# Altium integrated library Altium_Krebyy_Library.IntLib: 67 symbols (part 2 of 3)
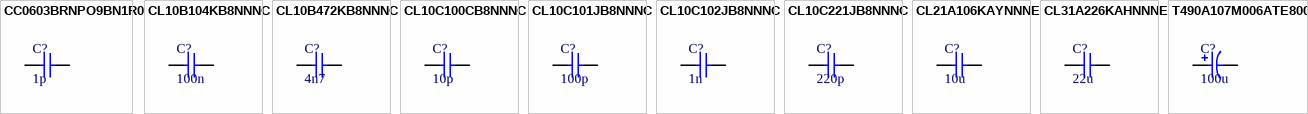
[diagram p11: symbols CC0603BRNPO9BN1R0 to T490A107M006ATE800]

## CL10C102JB8NNNC
designator C?, comment 1n
CAP CER 1NF 50V NP0 0603; Manufacturer: Samsung; Manufacturer Part Number: CL10C102JB8NNNC; Material: Ceramic; Tolerance: 5%; Dielectric: C0G; Temperature Coefficient: 300ppm/°C; Supplier 1: Digi-Key; RoHS: Yes; Category: Ceramic Capacitors; Stock 1: 2570050; Pricing 1: 1=0,10000, 10=0,03000, 50=0,01640, 100=0,01330, 500=0,00950, 1000=0,00747 (USD); Mount: Surface Mount; Case/Package: 0603; Case Code (Metric): 1608; Case Code (Imperial): 0603; Min Operating Temperature: -55°C; Max Operating Temperature: 125°C; Capacitance: 1nF; Voltage: 50V; Voltage Rating (DC): 50V; Voltage Rating: 50V; Packaging: Tape and Reel; Package Quantity: 1; Series: CL; Length: 1.6mm; Width: 0.031inch; Height: 0.8mm; Depth: 0.8mm; Thickness: 0.035inch; Radiation Hardening: No; Lead Free: Lead Free; RoHS Compliant: Yes; ComponentLink1URL: https://datasheet.ciiva.com/15195/getdatasheetpartid-354056-15195790.pdf?src-supplier=Verical; ComponentLink1Description: https://datasheet.ciiva.com/15195/getdatasheetpartid-354056-15195790.pdf?src-supplier=Verical; ComponentLink2URL: https://datasheet.ciiva.com/29198/458273-da-01-en-vs-kondensator-0603-29198494.pdf?src-supplier=Conrad; ComponentLink2Description: https://datasheet.ciiva.com/29198/458273-da-01-en-vs-kondensator-0603-29198494.pdf?src-supplier=Conrad; ComponentLink3URL: https://datasheet.ciiva.com/26310/mlcc-catalogdownload2013-eng-26310329.pdf?src-supplier=Distrelec; ComponentLink3Description: https://datasheet.ciiva.com/26310/mlcc-catalogdownload2013-eng-26310329.pdf?src-supplier=Distrelec; Supplier Part Number 1: 1276-1091-1-ND
footprint C0603
pins: 1, 2

## CL10C221JB8NNNC
designator C?, comment 220p
CAP CER 220PF 50V NP0 0603; Manufacturer: Samsung; Manufacturer Part Number: CL10C221JB8NNNC; Material: Ceramic; Tolerance: 5%; Dielectric: C0G; Temperature Coefficient: 300ppm/°C; Supplier 1: Digi-Key; RoHS: Yes; Category: Ceramic Capacitors; Stock 1: 270558; Pricing 1: 1=0,10000, 10=0,03200, 50=0,01740, 100=0,01420, 500=0,01012, 1000=0,00794 (USD); Mount: Surface Mount; Case/Package: 0603; Case Code (Metric): 1608; Case Code (Imperial): 0603; Contact Plating: Tin; Min Operating Temperature: -55°C; Max Operating Temperature: 125°C; Capacitance: 220pF; Voltage: 50V; Voltage Rating (DC): 50V; Voltage Rating: 50V; Package Quantity: 1; Packaging: Tape and Reel; Length: 1.6mm; Width: 0.031inch; Height: 0.8mm; Depth: 0.8mm; Thickness: 0.035inch; Radiation Hardening: No; Lead Free: Lead Free; RoHS Compliant: Yes; ComponentLink1URL: https://datasheet.ciiva.com/26838/getdatasheetpartid-355186-26838508.pdf?src-supplier=Verical; ComponentLink1Description: https://datasheet.ciiva.com/26838/getdatasheetpartid-355186-26838508.pdf?src-supplier=Verical; ComponentLink2URL: https://datasheet.ciiva.com/29198/456419-da-01-en-vs-kondensator-0603-29198975.pdf?src-supplier=Conrad; ComponentLink2Description: https://datasheet.ciiva.com/29198/456419-da-01-en-vs-kondensator-0603-29198975.pdf?src-supplier=Conrad; Supplier Part Number 1: 1276-1048-1-ND
footprint C0603
pins: 1, 2

## CL21A106KAYNNNE
designator C?, comment 10u
CAP CER 10UF 25V X5R 0805; Manufacturer: Samsung; Manufacturer Part Number: CL21A106KAYNNNE; Tolerance: 10%; Supplier 1: Digi-Key; RoHS: Yes; Category: Ceramic Capacitors; Stock 1: 1536667; Pricing 1: 1=0,18000, 10=0,12800, 50=0,07280, 100=0,06030, 500=0,04230, 1000=0,03501 (USD); Mount: Surface Mount; Case/Package: 0805; Case Code (Metric): 2012; Case Code (Imperial): 0805; Min Operating Temperature: -55°C; Max Operating Temperature: 85°C; Package Quantity: 1; Packaging: Tape and Reel; Capacitance: 10uF; Voltage Rating: 25V; Dielectric: X5R; Series: CL; Construction: Flat; Length: 2mm; Width: 0.049inch; Height: 1.25mm; Depth: 1.25mm; Thickness: 0.057inch; Radiation Hardening: No; RoHS Compliant: Yes; ComponentLink1URL: https://datasheet.ciiva.com/25796/cl21a106kaynnne-25796720.pdf?src-supplier=Digi-Key; ComponentLink1Description: https://datasheet.ciiva.com/25796/cl21a106kaynnne-25796720.pdf?src-supplier=Digi-Key; ComponentLink2URL: https://datasheet.ciiva.com/26838/getdatasheetpartid-357558-26838583.pdf?src-supplier=Verical; ComponentLink2Description: https://datasheet.ciiva.com/26838/getdatasheetpartid-357558-26838583.pdf?src-supplier=Verical; Supplier Part Number 1: 1276-2891-1-ND
footprint C0805
pins: 1, 2

## CL31A226KAHNNNE
designator C?, comment 22u
CAP CER 22UF 25V X5R 1206; Manufacturer: Samsung; Manufacturer Part Number: CL31A226KAHNNNE; Material: Ceramic; Tolerance: 10%; Supplier 1: Digi-Key; RoHS: Yes; Category: Ceramic Capacitors; Stock 1: 2536523; Pricing 1: 1=0,36000, 10=0,25100, 50=0,17580, 100=0,15070, 500=0,11304, 1000=0,09545 (USD); Mount: Surface Mount; Case/Package: 1206; Case Code (Metric): 3216; Case Code (Imperial): 1206; Contact Plating: Tin; Min Operating Temperature: -55°C; Max Operating Temperature: 85°C; Capacitance: 22uF; Dielectric: X5R; Package Quantity: 1; Packaging: Tape and Reel; Voltage Rating: 25V; Series: CL; Construction: Flat; Length: 3.2mm; Width: 0.063inch; Height: 1.6mm; Thickness: 0.071inch; Depth: 1.6mm; Radiation Hardening: No; RoHS Compliant: Yes; ComponentLink1URL: https://datasheet.ciiva.com/25766/cl31a226kahnnne-25766608.pdf?src-supplier=Digi-Key; ComponentLink1Description: https://datasheet.ciiva.com/25766/cl31a226kahnnne-25766608.pdf?src-supplier=Digi-Key; ComponentLink2URL: https://datasheet.ciiva.com/16437/cl31a226kahnnne-16437213.pdf?src-supplier=Future+Electronics; ComponentLink2Description: https://datasheet.ciiva.com/16437/cl31a226kahnnne-16437213.pdf?src-supplier=Future+Electronics; ComponentLink3URL: https://datasheet.ciiva.com/26838/getdatasheetpartid-359658-26838860.pdf?src-supplier=Verical; ComponentLink3Description: https://datasheet.ciiva.com/26838/getdatasheetpartid-359658-26838860.pdf?src-supplier=Verical; ComponentLink4URL: https://datasheet.ciiva.com/29201/452249-da-01-en-vs-kondensator-1206-29201336.pdf?src-supplier=Conrad; ComponentLink4Description: https://datasheet.ciiva.com/29201/452249-da-01-en-vs-kondensator-1206-29201336.pdf?src-supplier=Conrad; Supplier Part Number 1: 1276-3047-1-ND
footprint C1206
pins: 1, 2

## T490A107M006ATE800
designator C?, comment 100u
CAP TANT 100UF 6.3V 20% 1206; Manufacturer: KEMET; Manufacturer Part Number: T490A107M006ATE800; ESR (Equivalent Series Resistance): 800mR; RoHS: Yes; Category: Tantalum Capacitors; Stock 1: 8150; Pricing 1: 1=0,86000, 10=0,65500, 50=0,54380, 100=0,46830, 500=0,36252, 1000=0,31217 (USD); Case/Package: 1206; Min Operating Temperature: -55°C; Max Operating Temperature: 40°C; Capacitance: 100uF; Tolerance: 20%; Length: 3.2mm; Height: 1.6mm; RoHS Compliant: Yes; ComponentLink1URL: http://www.farnell.com/datasheets/2319485.pdf?src-supplier=Farnell; ComponentLink1Description: http://www.farnell.com/datasheets/2319485.pdf?src-supplier=Farnell; ComponentLink2URL: https://api.kemet.com/component-edge/download/datasheet/T490A107M006ATE800.pdf?src-supplier=Digi-Key; ComponentLink2Description: https://api.kemet.com/component-edge/download/datasheet/T490A107M006ATE800.pdf?src-supplier=Digi-Key; ComponentLink3URL: http://capacitoredge.kemet.com/capedge2/DataSheet/Datasheet-T490A107M006ATE800.pdf?pn=T490A107M006ATE800&src-supplier=Avnet; ComponentLink3Description: http://capacitoredge.kemet.com/capedge2/DataSheet/Datasheet-T490A107M006ATE800.pdf?pn=T490A107M006ATE800&src-supplier=Avnet; Supplier 1: LCSC; Supplier 2: Digi-Key; Supplier Part Number 1: C122251; Supplier Part Number 2: 399-18374-1-ND; Voltage: 6.3V
footprint CP1206
pins: +, -


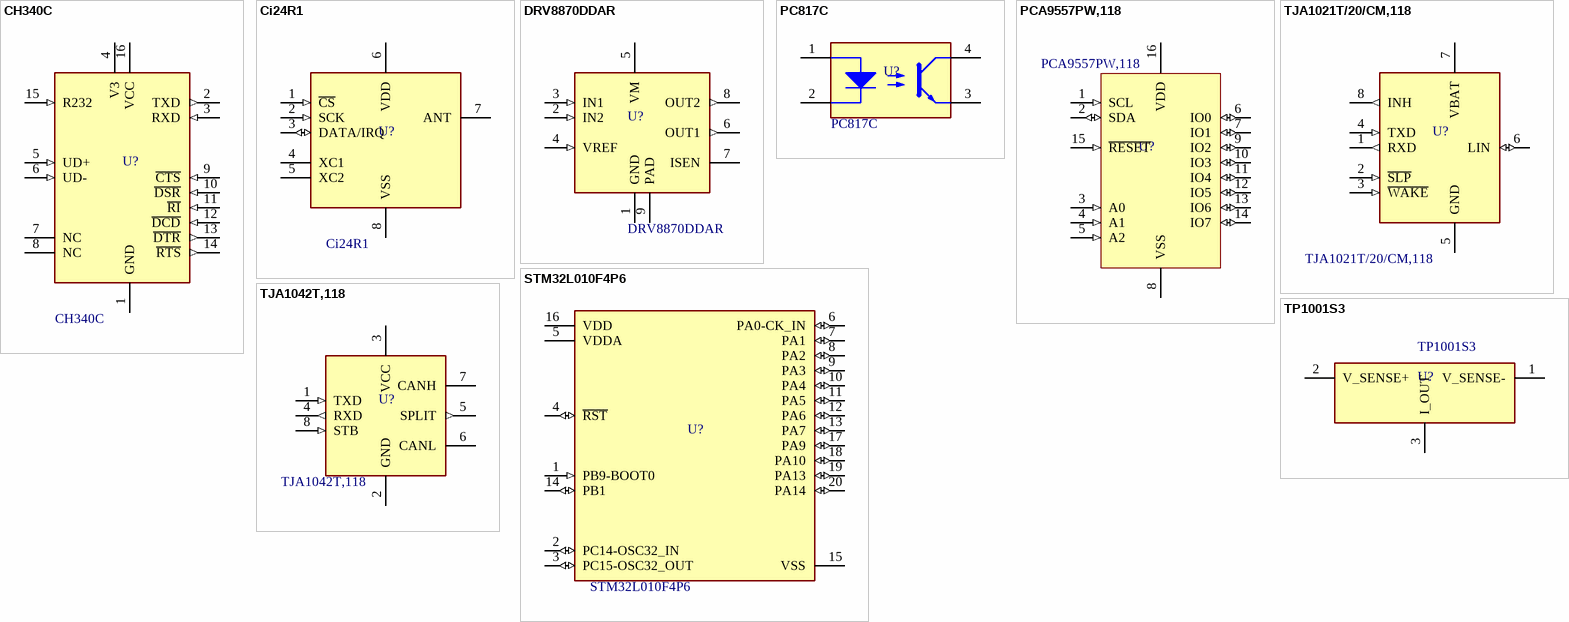
[diagram p7: symbols CH340C to TP1001S3]

## CH340C
designator U?
IC USB-TO-UART BRIDGE 16SOIC; Manufacturer: WCH(Jiangsu Qin Heng); Interface: UART; Data Rate: 2 Mbps; Supply Voltage: 3.3V, 5V; RoHS: Yes; Category: Interface ICs; Mount: Surface Mount; Case/Package: SOIC-16; Number of Pins: 16; ComponentLink1URL: https://www.mpja.com/download/35227cpdata.pdf; ComponentLink1Description: Datasheet; Manufacturer 1: WCH(Jiangsu Qin Heng); Manufacturer Part Number 1: CH340C; Supplier 1: LCSC; Manufacturer Part Number: CH340C
footprint SO16
pins: 1 GND (power), 2 TXD (out), 3 RXD (in), 4 V3 (power), 5 UD+ (in), 6 UD- (in), 7 NC, 8 NC, 9 ~{CTS} (in), 10 ~{DSR} (in), 11 ~{RI} (in), 12 ~{DCD} (in), 13 ~{DTR} (out), 14 ~{RTS} (out), 15 R232 (in), 16 VCC (power)

## Ci24R1
designator U?
IC RF 2.4GHz TRANSCEIVER 8SOIC; Manufacturer: Nanjing Zhongke Microelectronics; Operating Voltage: 2.1-3.6 V; Current of Transmitting: 18 mA; Frequency Range: 2400MHz~2525MHz; Data Rate: 2 Mbps; Receive Current: 20 mA; Interface: SPI; RoHS: Yes; Category: RF Transceivers; Mount: Surface Mount; Case/Package: SOIC-8; Number of Pins: 8; Packaging: Tape and Reel; RoHS Compliant: Yes; ComponentLink4URL: https://datasheet.lcsc.com/lcsc/2112131130_Nanjing-Zhongke-Microelectronics-Ci24R1_C2909832.pdf; ComponentLink4Description: Datasheet; Manufacturer 1: Nanjing Zhongke Microelectronics; Manufacturer Part Number 1: Ci24R1; Supplier 1: LCSC; Manufacturer Part Number: Ci24R1
footprint SO8
pins: 1 ~{CS} (in), 2 SCK (in), 3 DATA/IRQ (io), 4 XC1, 5 XC2, 6 VDD (power), 7 ANT, 8 VSS (power)

## DRV8870DDAR
designator U?, comment Manufacturer Part Number: DRV8870DDAR  (hidden comment: DRV8870)
IC DRIVER DC MOTOR 3.6A 8SOIC; Manufacturer: Texas Instruments; Interface: PWM; Number of Outputs: 2; Min Supply Voltage: 6.5V; Max Supply Voltage: 45V; Fault Protection: Over Temperature; Operating Supply Current: 3mA; Operating Frequency: 100 kHz; RoHS: Yes; Category: ICs Drivers; Stock 1: 39679; Pricing 1: 1=2,54000, 10=2,28100, 25=2,15200, 100=1,83330, 250=1,72144, 500=1,50626, 1000=1,24804 (USD); Mount: Surface Mount; Number of Pins: 8; Weight: 0.003457oz; Min Operating Temperature: -40°C; Max Operating Temperature: 125°C; Packaging: Cut Tape; Output Current: 3.6A; Max Output Current: 3.6A; Series: -; Technology: NMOS; Operating Supply Voltage: 45V; Package Quantity: 2500; Reach SVHC Compliant: Yes; Lead Free: Lead Free; RoHS Compliant: Yes; ComponentLink1URL: http://www.ti.com/general/docs/lit/getliterature.tsp?genericPartNumber=DRV8870&fileType=pdf&src-supplier=Farnell; ComponentLink1Description: http://www.ti.com/general/docs/lit/getliterature.tsp?genericPartNumber=DRV8870&fileType=pdf&src-supplier=Farnell; ComponentLink2URL: http://www.farnell.com/datasheets/2075773.pdf?src-supplier=Element14; ComponentLink2Description: http://www.farnell.com/datasheets/2075773.pdf?src-supplier=Element14; ComponentLink3URL: http://www.ti.com/lit/ds/symlink/drv8870.pdf?src-supplier=Digi-Key; ComponentLink3Description: http://www.ti.com/lit/ds/symlink/drv8870.pdf?src-supplier=Digi-Key; ComponentLink4URL: http://www.ti.com/general/docs/lit/getliterature.tsp?genericPartNumber=DRV8870&&fileType=pdf&src-supplier=Avnet; ComponentLink4Description: http://www.ti.com/general/docs/lit/getliterature.tsp?genericPartNumber=DRV8870&&fileType=pdf&src-supplier=Avnet; Supplier 1: Digi-Key; Supplier Part Number 1: 296-42660-1-ND; Case/Package: SOIC-8
footprint HSOP8
pins: 1 GND (power), 2 IN2 (in), 3 IN1 (in), 4 VREF (in), 5 VM (power), 6 OUT1 (out), 7 ISEN (power), 8 OUT2 (out), 9 PAD

## PC817C
designator U?
IC OPTOCOUPLER TRANSISTOR 4-SMD; Manufacturer: GOODWORK; Number of Channels: 1; Isolation Voltage: 5kV; Supplier 1: LCSC; Stock 1: 63370; Pricing 1: 10=0,03920, 100=0,03190, 300=0,02820, 2000=0,02540, 4000=0,02330, 10000=0,02220 (USD); Case/Package: SMD-4; Mount: Surface Mount; RoHS Compliant: Yes; Supplier Part Number 1: C3025164; ComponentLink1Description: Datasheet; ComponentLink1URL: https://datasheet.lcsc.com/lcsc/2206061700_GOODWORK-PC817C_C3025164.pdf; Category: Optocouplers; Manufacturer Part Number: PC817C
footprint OC_SMD4
pins: 1 A, 2 K, 3 E, 4 C

## PCA9557PW,118
designator U?
IC I/O EXPANDER I2C 16TSSOP; Manufacturer: NXP Semiconductors; Interface: I2C,SMBus,Serial; Min Supply Voltage: 2.3V; Max Supply Voltage: 5.5V; Output Current: 50mA; Nominal Supply Current: 85mA; Number of I/Os: 8; Max Power Dissipation: 200mW; Frequency: 400kHz; RoHS: Yes; Category: Interface ICs; Stock 1: 37684; Pricing 1: 1=1,70000, 10=1,52400, 25=1,43800, 100=1,22520, 250=1,15040, 500=1,00658, 1000=0,90935 (USD); Mount: Surface Mount; Case/Package: TSSOP-16; Number of Pins: 16; Weight: 0.006102oz; Contact Plating: Gold; Min Operating Temperature: -40°C; Max Operating Temperature: 85°C; Packaging: Tape and Reel; Package Quantity: 1; Max Frequency: 400kHz; Series: -; Supply Voltage-Nom: 5.5V; Supply Current: 85mA; Radiation Hardening: No; Lead Free: Lead Free; ComponentLink1URL: https://datasheet.ciiva.com/46390/1786003-46390826.pdf?src-supplier=Element14; ComponentLink1Description: https://datasheet.ciiva.com/46390/1786003-46390826.pdf?src-supplier=Element14; ComponentLink2URL: https://datasheet.ciiva.com/1779/pca9557-1779992.pdf?src-supplier=Digi-Key; ComponentLink2Description: https://datasheet.ciiva.com/1779/pca9557-1779992.pdf?src-supplier=Digi-Key; ComponentLink3URL: https://datasheet.ciiva.com/1779/pca9557-1779991.pdf?src-supplier=Digi-Key; ComponentLink3Description: https://datasheet.ciiva.com/1779/pca9557-1779991.pdf?src-supplier=Digi-Key; ComponentLink4URL: https://datasheet.ciiva.com/1779/pca9557-1779993.pdf?src-supplier=Digi-Key; ComponentLink4Description: https://datasheet.ciiva.com/1779/pca9557-1779993.pdf?src-supplier=Digi-Key; ComponentLink5URL: https://datasheet.ciiva.com/8123/pca9557-8123482.pdf?src-supplier=Avnet; ComponentLink5Description: https://datasheet.ciiva.com/8123/pca9557-8123482.pdf?src-supplier=Avnet; ComponentLink6URL: https://datasheet.ciiva.com/16219/pca9557-16219951.pdf?src-supplier=Future+Electronics; ComponentLink6Description: https://datasheet.ciiva.com/16219/pca9557-16219951.pdf?src-supplier=Future+Electronics; ComponentLink7URL: https://datasheet.ciiva.com/8125/pca9557-8125431.pdf?src-supplier=Avnet; ComponentLink7Description: https://datasheet.ciiva.com/8125/pca9557-8125431.pdf?src-supplier=Avnet; Supplier 1: LCSC; Supplier 2: Digi-Key; Supplier Part Number 1: C141380; Supplier Part Number 2: 568-1061-1-ND; Manufacturer Part Number: PCA9557PW,118
footprint TSSOP16
pins: 1 SCL (in), 2 SDA (io), 3 A0 (in), 4 A1 (in), 5 A2 (in), 6 IO0 (io), 7 IO1 (io), 8 VSS (power), 9 IO2 (io), 10 IO3 (io), 11 IO4 (io), 12 IO5 (io), 13 IO6 (io), 14 IO7 (io), 15 ~{RESET} (in), 16 VDD (power)

## STM32L010F4P6
designator U?
IC MCU 32BIT 16KB FLASH 20TSSOP; Manufacturer: STMicroelectronics; Supplier 1: Digi-Key; RoHS: Yes; Category: Microcontrollers; Stock 1: 7824; Pricing 1: 1=1,82000, 10=1,63100, 25=1,53840, 100=1,31070, 250=1,23068, 500=1,07684, 1000=0,89224, 2500=0,83910 (USD); ComponentLink1URL: http://www.farnell.com/datasheets/2710889.pdf?src-supplier=Farnell; ComponentLink1Description: http://www.farnell.com/datasheets/2710889.pdf?src-supplier=Farnell; ComponentLink2URL: http://www.farnell.com/datasheets/2710889.pdf?src-supplier=Newark; ComponentLink2Description: http://www.farnell.com/datasheets/2710889.pdf?src-supplier=Newark; Supplier Part Number 1: 497-19364-ND; Case/Package: TSSOP-20; Manufacturer Part Number: STM32L010F4P6
footprint TSSOP20
pins: 1 PB9-BOOT0 (in), 2 PC14-OSC32_IN (io), 3 PC15-OSC32_OUT (io), 4 ~{RST} (io), 5 VDDA (power), 6 PA0-CK_IN (io), 7 PA1 (io), 8 PA2 (io), 9 PA3 (io), 10 PA4 (io), 11 PA5 (io), 12 PA6 (io), 13 PA7 (io), 14 PB1 (io), 15 VSS (power), 16 VDD (power), 17 PA9 (io), 18 PA10 (io), 19 PA13 (io), 20 PA14 (io)

## TJA1021T/20/CM,118
designator U?, comment Manufacturer Part Number: TJA1021T/20/CM,118  (hidden comment: TJA1021T)
IC TRANSCEIVER LIN 8SOIC; Manufacturer: NXP Semiconductors; Min Supply Voltage: 5.5V; Max Supply Voltage: 27V; Number of Transmitters: 1; Max Supply Current: 4mA; Baud Rate: 20Kbaud; Simplex/Duplex: Full Duplex; Receiver Hysteresis: 175mV; RoHS: Yes; Category: Interface ICs; Pricing 1: 1=1,52000, 10=1,39000, 50=1,32000, 100=1,12000, 1000=0,83600, 10000=0,80400 (USD); Mount: Surface Mount; Case/Package: SOIC-8; Number of Pins: 8; Packaging: Tape and Reel; Series: -; Reach SVHC Compliant: Yes; RoHS Compliant: Yes; ComponentLink1URL: http://components.arrow.com/part/dataview/57164935S711863N7788?src-supplier=Arrow+Electronics; ComponentLink1Description: http://components.arrow.com/part/dataview/57164935S711863N7788?src-supplier=Arrow+Electronics; ComponentLink2URL: http://www.mouser.com/ds/2/302/TJA1021-1127848.pdf?src-supplier=Mouser; ComponentLink2Description: http://www.mouser.com/ds/2/302/TJA1021-1127848.pdf?src-supplier=Mouser; ComponentLink3URL: http://www.farnell.com/datasheets/1730176.pdf?src-supplier=Farnell; ComponentLink3Description: http://www.farnell.com/datasheets/1730176.pdf?src-supplier=Farnell; ComponentLink4URL: http://www.nxp.com/documents/data_sheet/TJA1021.pdf?src-supplier=Avnet; ComponentLink4Description: http://www.nxp.com/documents/data_sheet/TJA1021.pdf?src-supplier=Avnet; ComponentLink5URL: http://www.farnell.com/datasheets/1730176.pdf?src-supplier=Element14; ComponentLink5Description: http://www.farnell.com/datasheets/1730176.pdf?src-supplier=Element14; Supplier 1: LCSC; Supplier Part Number 1: C128810
footprint SO8
pins: 1 RXD (out), 2 ~{SLP} (in), 3 ~{WAKE} (in), 4 TXD (in), 5 GND (power), 6 LIN (io), 7 VBAT (power), 8 INH (out)

## TJA1042T,118
designator U?, comment Manufacturer Part Number: TJA1042T,118  (hidden comment: TJA1042T)
IC TRANSCEIVER HALF CANBUS 8SOIC; Manufacturer: NXP Semiconductors; Data Rate: 5Mbps; Min Supply Voltage: 4.5V; Max Supply Voltage: 5.5V; Number of Transceivers: 1; Max Supply Current: 70mA; Interface: CAN; Propagation Delay: 90ns; Turn-On Delay Time: 250ns; Operating Supply Current: 80mA; RoHS: Yes; Category: Interface ICs; Stock 1: 6838; Pricing 1: 1=1,85000, 10=1,66400, 25=1,56960, 100=1,33720, 250=1,25560, 500=1,09864, 1000=0,99251 (USD); Mount: Surface Mount; Case/Package: SOIC-8; Number of Pins: 8; Contact Plating: Gold; Weight: 0.00248oz; Min Operating Temperature: -40°C; Max Operating Temperature: 150°C; Packaging: Cut Tape; Series: TJA1042; Nominal Supply Current: 70mA; Package Quantity: 2500; Type: Integrated Circuit (IC); Number of Drivers: 1; Number of Receivers: 1; Radiation Hardening: No; RoHS Compliant: Yes; Lead Free: Lead Free; ComponentLink1URL: https://datasheet.ciiva.com/4781/tja1042-120193-4781371.pdf?src-supplier=Mouser; ComponentLink1Description: https://datasheet.ciiva.com/4781/tja1042-120193-4781371.pdf?src-supplier=Mouser; ComponentLink2URL: https://datasheet.ciiva.com/15149/getdatasheetpartid-295270-15149994.pdf?src-supplier=Verical; ComponentLink2Description: https://datasheet.ciiva.com/15149/getdatasheetpartid-295270-15149994.pdf?src-supplier=Verical; Supplier 1: LCSC; Supplier 2: Mouser; Supplier Part Number 1: C53670; Supplier Part Number 2: 771-TJA1042T,118
footprint SO8
pins: 1 TXD (in), 2 GND (power), 3 VCC (power), 4 RXD (out), 5 SPLIT (out), 6 CANL, 7 CANH, 8 STB (in)

## TP1001S3
designator U?
IC CURRENT-SENSING SOT-23-3; Manufacturer: Tech Public; Supplier 1: LCSC; Category: Sensors; Stock 1: 8278; Pricing 1: 1=0,34850, 10=0,27850, 30=0,24820, 100=0,21000, 500=0,19410, 1000=0,18300 (USD); ComponentLink1Description: Datasheet; ComponentLink1URL: https://datasheet.lcsc.com/lcsc/2108131930_TECH-PUBLIC-TP1001S3_C521983.pdf; Supplier Part Number 1: C521983; Case/Package: SOT-23-3; Manufacturer Part Number: TP1001S3
footprint SOT-23-3
pins: 1 V_SENSE-, 2 V_SENSE+, 3 I_OUT


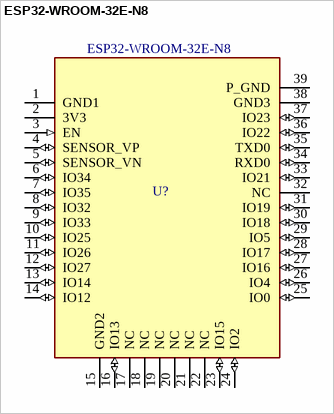
[diagram p8: symbol ESP32-WROOM-32E-N8]

## ESP32-WROOM-32E-N8
designator U?, comment Manufacturer Part Number: ESP32-WROOM-32E-N8  (hidden comment: ESP32-WROOM-32E)
WIFI + BLUETOOTH MCU MODULE; Manufacturer: Espressif Systems; RoHS: No; Category: RF Transceiver Modules; Stock 1: 10823; Pricing 1: 1=3,30000 (USD); Supplier 1: LCSC; Supplier 2: Digi-Key; Supplier Part Number 1: C701342; Supplier Part Number 2: 1965-ESP32-WROOM-32E-N8CT-ND; ComponentLink1Description: Datasheet; ComponentLink1URL: https://www.espressif.com/sites/default/files/documentation/esp32-wroom-32e_esp32-wroom-32ue_datasheet_en.pdf; Case/Package: SMD-38
footprint ESP32­WROOM­32E
pins: 1 GND1 (power), 2 3V3 (power), 3 EN (in), 4 SENSOR_VP (io), 5 SENSOR_VN (io), 6 IO34 (io), 7 IO35 (io), 8 IO32 (io), 9 IO33 (io), 10 IO25 (io), 11 IO26 (io), 12 IO27 (io), 13 IO14 (io), 14 IO12 (io), 15 GND2 (power), 16 IO13 (io), 17 NC, 18 NC, 19 NC, 20 NC, 21 NC, 22 NC, 23 IO15 (io), 24 IO2 (io), 25 IO0 (io), 26 IO4 (io), 27 IO16 (io), 28 IO17 (io), 29 IO5 (io), 30 IO18 (io), 31 IO19 (io), 32 NC, 33 IO21 (io), 34 RXD0 (io), 35 TXD0 (io), 36 IO22 (io), 37 IO23 (io), 38 GND3 (power), 39 P_GND (power)


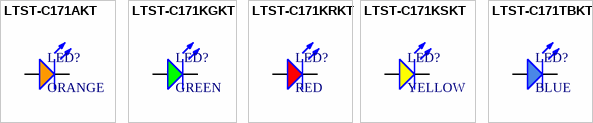
[diagram p9: symbols LTST-C171AKT to LTST-C171TBKT]

## LTST-C171AKT
designator LED?, comment ORANGE
LED ORANGE CLEAR 0805 SMD; Manufacturer: Vishay Lite-On; Manufacturer Part Number: LTST-C171AKT; Lens Color: Colorless; Lens Style: Diffused,Colorless,Rectangular; Viewing Angle: 130°; Luminous Intensity: 4.5mcd; Forward Voltage: 2.1V; Forward Current: 30mA; Power Rating: 100mW; Test Current: 20mA; Dominant Wavelength: 602nm; Number of Elements: 1; Wavelength: 610nm; Reverse Voltage: 5V; Supplier 1: Digi-Key; RoHS: Yes; Category: LEDs; Stock 1: 15787; Pricing 1: 1=0,30000, 10=0,16000, 100=0,07440, 500=0,06870, 1000=0,05382 (USD); Mount: Surface Mount; Case/Package: 0805; Number of Pins: 2; Color: Orange; Case Code (Metric): 2012; Case Code (Imperial): 0805; Min Operating Temperature: -55°C; Max Operating Temperature: 85°C; Packaging: Tape and Reel; Package Quantity: 1; Illumination Color: Orange; Lens Transparency: Clear; Power Dissipation: 100mW; Number of LEDs: 1; Series: -; Length: 2mm; Width: 1.25mm; Height: 0.8mm; Depth: 1.25mm; Radiation Hardening: No; Lead Free: Lead Free; RoHS Compliant: Yes; ComponentLink1URL: https://datasheet.ciiva.com/2110/ltst-c171akt-2110141.pdf?src-supplier=Digi-Key; ComponentLink1Description: https://datasheet.ciiva.com/2110/ltst-c171akt-2110141.pdf?src-supplier=Digi-Key; ComponentLink2URL: https://datasheet.ciiva.com/11773/0900766b80dc028e-11773713.pdf?src-supplier=RSComponents; ComponentLink2Description: https://datasheet.ciiva.com/11773/0900766b80dc028e-11773713.pdf?src-supplier=RSComponents; ComponentLink3URL: https://datasheet.ciiva.com/12403/ltstc171aktliteon-201750-12403710.pdf?src-supplier=Mouser; ComponentLink3Description: https://datasheet.ciiva.com/12403/ltstc171aktliteon-201750-12403710.pdf?src-supplier=Mouser; Supplier Part Number 1: 160-1419-1-ND
footprint LED0805
pins: A, K

## LTST-C171KGKT
designator LED?, comment GREEN
LED GREEN CLEAR 0805 SMD; Manufacturer: Vishay Lite-On; Manufacturer Part Number: LTST-C171KGKT; Lens Color: Colorless; Viewing Angle: 130°; Lens Style: Rectangular,Diffused,Colorless,Clear; Forward Voltage: 2.4V; Forward Current: 30mA; Luminous Intensity: 35mcd; Dominant Wavelength: 571nm; Test Current: 20mA; Number of Elements: 1; Power Dissipation: 75mW; Wavelength: 574nm; Reverse Voltage: 5V; Supplier 1: Digi-Key; RoHS: Yes; Category: LEDs; Stock 1: 237075; Pricing 1: 1=0,28000, 10=0,15000, 100=0,06990, 500=0,06450, 1000=0,05052 (USD); Mount: Surface Mount; Case/Package: 0805; Number of Pins: 2; Color: Green; Case Code (Metric): 2012; Case Code (Imperial): 0805; Min Operating Temperature: -55°C; Max Operating Temperature: 85°C; Packaging: Tape and Reel; Package Quantity: 1; Illumination Color: Green; Lens Transparency: Clear; Number of LEDs: 1; Series: CHIPLED 0805; Power Rating: 75mW; Length: 2mm; Width: 1.25mm; Height: 0.8mm; Depth: 1.25mm; Radiation Hardening: No; Lead Free: Lead Free; RoHS Compliant: Yes; ComponentLink1URL: https://datasheet.ciiva.com/11774/0900766b80dc0298-11774377.pdf?src-supplier=RSComponents; ComponentLink1Description: https://datasheet.ciiva.com/11774/0900766b80dc0298-11774377.pdf?src-supplier=RSComponents; ComponentLink2URL: https://datasheet.ciiva.com/12400/lite-on-ltst-c171kgkt-187692-12400799.pdf?src-supplier=Mouser; ComponentLink2Description: https://datasheet.ciiva.com/12400/lite-on-ltst-c171kgkt-187692-12400799.pdf?src-supplier=Mouser; ComponentLink3URL: https://datasheet.ciiva.com/16200/lite-on20ltst-c171kgkt-16200100.pdf?src-supplier=Future+Electronics; ComponentLink3Description: https://datasheet.ciiva.com/16200/lite-on20ltst-c171kgkt-16200100.pdf?src-supplier=Future+Electronics; ComponentLink4URL: https://datasheet.ciiva.com/15118/getdatasheetpartid-214542-15118099.pdf?src-supplier=Verical; ComponentLink4Description: https://datasheet.ciiva.com/15118/getdatasheetpartid-214542-15118099.pdf?src-supplier=Verical; ComponentLink5URL: https://datasheet.ciiva.com/2110/s-110-ltst-c171kgkt-2110073.pdf?src-supplier=Digi-Key; ComponentLink5Description: https://datasheet.ciiva.com/2110/s-110-ltst-c171kgkt-2110073.pdf?src-supplier=Digi-Key; ComponentLink6URL: https://datasheet.ciiva.com/2110/s-110-ltst-c171kgkt-2110072.pdf?src-supplier=Digi-Key; ComponentLink6Description: https://datasheet.ciiva.com/2110/s-110-ltst-c171kgkt-2110072.pdf?src-supplier=Digi-Key; ComponentLink7URL: https://datasheet.ciiva.com/2110/s-110-ltst-c171kgkt-2110074.pdf?src-supplier=Digi-Key; ComponentLink7Description: https://datasheet.ciiva.com/2110/s-110-ltst-c171kgkt-2110074.pdf?src-supplier=Digi-Key; Supplier Part Number 1: 160-1426-1-ND
footprint LED0805
pins: A, K

## LTST-C171KRKT
designator LED?, comment RED
LED RED CLEAR 0805 SMD; Manufacturer: Vishay Lite-On; Manufacturer Part Number: LTST-C171KRKT; Lens Color: Colorless; Viewing Angle: 130°; Lens Style: Diffused,Colorless,Rectangular,Clear; Forward Current: 30mA; Forward Voltage: 2V; Luminous Intensity: 54mcd; Test Current: 20mA; Dominant Wavelength: 631nm; Number of Elements: 1; Power Dissipation: 75mW; Wavelength: 639nm; Reverse Voltage: 5V; Supplier 1: Digi-Key; RoHS: Yes; Category: LEDs; Stock 1: 334560; Pricing 1: 1=0,28000, 10=0,15000, 100=0,06990, 500=0,06450, 1000=0,05052 (USD); Mount: Surface Mount; Case/Package: 0805; Number of Pins: 2; Color: Red; Case Code (Metric): 2012; Case Code (Imperial): 0805; Min Operating Temperature: -55°C; Max Operating Temperature: 85°C; Package Quantity: 3000; Packaging: Tape and Reel; Illumination Color: Red; Lens Transparency: Clear; Number of LEDs: 1; Series: -; Power Rating: 75mW; Length: 2mm; Width: 1.25mm; Height: 0.8mm; Depth: 1.25mm; Radiation Hardening: No; Lead Free: Lead Free; RoHS Compliant: Yes; ComponentLink1URL: https://datasheet.ciiva.com/11775/0900766b80dc0299-11775643.pdf?src-supplier=RSComponents; ComponentLink1Description: https://datasheet.ciiva.com/11775/0900766b80dc0299-11775643.pdf?src-supplier=RSComponents; ComponentLink2URL: https://datasheet.ciiva.com/12403/lite-on-ltst-c171krkt-187201-12403781.pdf?src-supplier=Mouser; ComponentLink2Description: https://datasheet.ciiva.com/12403/lite-on-ltst-c171krkt-187201-12403781.pdf?src-supplier=Mouser; ComponentLink3URL: https://datasheet.ciiva.com/16444/lite-on20ltst-c171krkt-16444779.pdf?src-supplier=Future+Electronics; ComponentLink3Description: https://datasheet.ciiva.com/16444/lite-on20ltst-c171krkt-16444779.pdf?src-supplier=Future+Electronics; ComponentLink4URL: https://datasheet.ciiva.com/2110/s-110-ltst-c171krkt-2110067.pdf?src-supplier=Digi-Key; ComponentLink4Description: https://datasheet.ciiva.com/2110/s-110-ltst-c171krkt-2110067.pdf?src-supplier=Digi-Key; ComponentLink5URL: https://datasheet.ciiva.com/2110/s-110-ltst-c171krkt-2110066.pdf?src-supplier=Digi-Key; ComponentLink5Description: https://datasheet.ciiva.com/2110/s-110-ltst-c171krkt-2110066.pdf?src-supplier=Digi-Key; ComponentLink6URL: https://datasheet.ciiva.com/2110/s-110-ltst-c171krkt-2110068.pdf?src-supplier=Digi-Key; ComponentLink6Description: https://datasheet.ciiva.com/2110/s-110-ltst-c171krkt-2110068.pdf?src-supplier=Digi-Key; Supplier Part Number 1: 160-1427-1-ND
footprint LED0805
pins: A, K

## LTST-C171KSKT
designator LED?, comment YELLOW
LED YELLOW CLEAR 0805 SMD; Manufacturer: Vishay Lite-On; Manufacturer Part Number: LTST-C171KSKT; Lens Color: Colorless; Number of LEDs: 1; Reverse Voltage: 5V; Viewing Angle: 130°; Lens Style: Diffused,Colorless,Rectangular,Clear; Luminous Intensity: 50mcd; Forward Voltage: 2V; Dominant Wavelength: 587nm; Test Current: 20mA; Wavelength: 588nm; Forward Current: 30mA; Max Power Dissipation: 75mW; Supplier 1: Digi-Key; RoHS: Yes; Category: LEDs; Stock 1: 283706; Pricing 1: 1=0,30000, 10=0,16000, 100=0,07450, 500=0,06872, 1000=0,05384 (USD); Mount: Surface Mount; Case/Package: 0805; Number of Pins: 2; Color: Yellow; Case Code (Metric): 2012; Case Code (Imperial): 0805; Min Operating Temperature: -55°C; Max Operating Temperature: 85°C; Package Quantity: 1; Packaging: Tape and Reel; Lens Transparency: Clear; Series: CHIPLED 0805; Illumination Color: Yellow; Power Rating: 75mW; Number of Elements: 1; Power Dissipation: 75mW; Length: 2mm; Width: 1.25mm; Height: 0.8mm; Depth: 1.25mm; Radiation Hardening: No; Lead Free: Lead Free; RoHS Compliant: Yes; ComponentLink1URL: https://datasheet.ciiva.com/19466/2075639-19466196.pdf?src-supplier=Jameco; ComponentLink1Description: https://datasheet.ciiva.com/19466/2075639-19466196.pdf?src-supplier=Jameco; ComponentLink2URL: https://datasheet.ciiva.com/11774/0900766b80dc029a-11774587.pdf?src-supplier=RSComponents; ComponentLink2Description: https://datasheet.ciiva.com/11774/0900766b80dc029a-11774587.pdf?src-supplier=RSComponents; ComponentLink3URL: https://datasheet.ciiva.com/12403/lite-on-ltst-c171kskt-190118-12403721.pdf?src-supplier=Mouser; ComponentLink3Description: https://datasheet.ciiva.com/12403/lite-on-ltst-c171kskt-190118-12403721.pdf?src-supplier=Mouser; ComponentLink4URL: https://datasheet.ciiva.com/16200/lite-on20ltst-c171kskt-16200102.pdf?src-supplier=Future+Electronics; ComponentLink4Description: https://datasheet.ciiva.com/16200/lite-on20ltst-c171kskt-16200102.pdf?src-supplier=Future+Electronics; ComponentLink5URL: https://datasheet.ciiva.com/15118/getdatasheetpartid-233685-15118145.pdf?src-supplier=Verical; ComponentLink5Description: https://datasheet.ciiva.com/15118/getdatasheetpartid-233685-15118145.pdf?src-supplier=Verical; ComponentLink6URL: https://datasheet.ciiva.com/2110/s-110-ltst-c171kskt-2110148.pdf?src-supplier=Digi-Key; ComponentLink6Description: https://datasheet.ciiva.com/2110/s-110-ltst-c171kskt-2110148.pdf?src-supplier=Digi-Key; ComponentLink7URL: https://datasheet.ciiva.com/2110/s-110-ltst-c171kskt-2110147.pdf?src-supplier=Digi-Key; ComponentLink7Description: https://datasheet.ciiva.com/2110/s-110-ltst-c171kskt-2110147.pdf?src-supplier=Digi-Key; ComponentLink8URL: https://datasheet.ciiva.com/2110/s-110-ltst-c171kskt-2110149.pdf?src-supplier=Digi-Key; ComponentLink8Description: https://datasheet.ciiva.com/2110/s-110-ltst-c171kskt-2110149.pdf?src-supplier=Digi-Key; Supplier Part Number 1: 160-1428-1-ND
footprint LED0805
pins: A, K

## LTST-C171TBKT
designator LED?, comment BLUE
LED BLUE CLEAR 0805 SMD; Manufacturer: Vishay Lite-On; Manufacturer Part Number: LTST-C171TBKT; Lens Color: Colorless; Forward Current: 20mA; Forward Voltage: 3.8V; Luminous Intensity: 180mcd; Viewing Angle: 130°; Lens Style: Diffused,Colorless,Rectangular,Clear; Dominant Wavelength: 475nm; Wavelength: 468nm; Number of LEDs: 1; Power Dissipation: 76mW; Reverse Voltage: 5V; Supplier 1: Digi-Key; RoHS: Yes; Category: LEDs; Stock 1: 373270; Pricing 1: 1=0,32000, 10=0,25100, 100=0,11280, 500=0,10192, 1000=0,08372 (USD); Mount: Surface Mount; Case/Package: 0805; Number of Pins: 2; Color: Blue; Case Code (Metric): 2012; Case Code (Imperial): 0805; Min Operating Temperature: -20°C; Max Operating Temperature: 80°C; Illumination Color: Blue; Packaging: Tape and Reel; Package Quantity: 1; Test Current: 20mA; Lens Transparency: Clear; Series: CHIPLED 0805; Number of Elements: 1; Length: 2mm; Width: 1.25mm; Height: 0.8mm; Depth: 1.25mm; Radiation Hardening: No; Lead Free: Lead Free; RoHS Compliant: Yes; ComponentLink1URL: https://datasheet.ciiva.com/2110/ltst-c171tbkt-2110304.pdf?src-supplier=Digi-Key; ComponentLink1Description: https://datasheet.ciiva.com/2110/ltst-c171tbkt-2110304.pdf?src-supplier=Digi-Key; ComponentLink2URL: https://datasheet.ciiva.com/11774/0900766b80dc029b-11774836.pdf?src-supplier=RSComponents; ComponentLink2Description: https://datasheet.ciiva.com/11774/0900766b80dc029b-11774836.pdf?src-supplier=RSComponents; ComponentLink3URL: https://datasheet.ciiva.com/12403/lite-on-ltst-c171tbkt-187246-12403800.pdf?src-supplier=Mouser; ComponentLink3Description: https://datasheet.ciiva.com/12403/lite-on-ltst-c171tbkt-187246-12403800.pdf?src-supplier=Mouser; ComponentLink4URL: https://datasheet.ciiva.com/15118/getdatasheetpartid-225754-15118121.pdf?src-supplier=Verical; ComponentLink4Description: https://datasheet.ciiva.com/15118/getdatasheetpartid-225754-15118121.pdf?src-supplier=Verical; ComponentLink5URL: https://datasheet.ciiva.com/2110/s-110-ltst-c171tbkt0630-2110305.pdf?src-supplier=Digi-Key; ComponentLink5Description: https://datasheet.ciiva.com/2110/s-110-ltst-c171tbkt0630-2110305.pdf?src-supplier=Digi-Key; ComponentLink6URL: https://datasheet.ciiva.com/16444/lite-onltst-c171tbkt-16444780.pdf?src-supplier=Future+Electronics; ComponentLink6Description: https://datasheet.ciiva.com/16444/lite-onltst-c171tbkt-16444780.pdf?src-supplier=Future+Electronics; Supplier Part Number 1: 160-1645-1-ND
footprint LED0805
pins: A, K


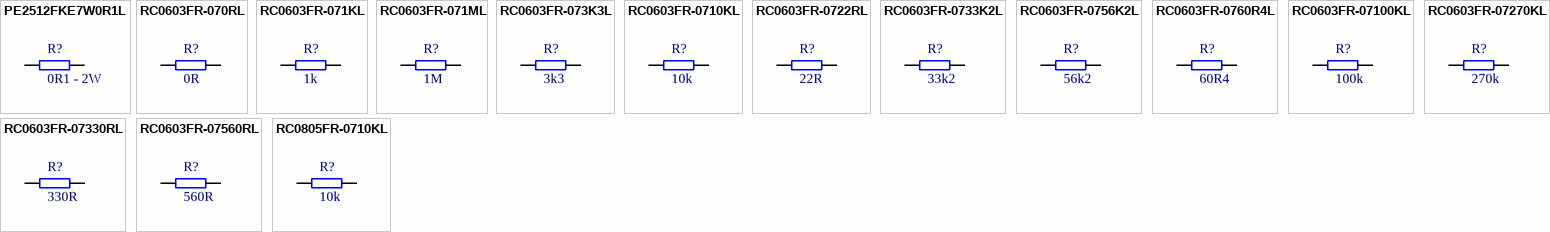
[diagram p10: symbols PE2512FKE7W0R1L to RC0805FR-0710KL]

## PE2512FKE7W0R1L
designator R?, comment 0R1 - 2W
RES SMD 0.1 OHM 1% 2W 2512; Manufacturer: Yageo; Manufacturer Part Number: PE2512FKE7W0R1L; Resistance: 100mR; Temperature Coefficient: 50ppm/°C; Supplier 1: Digi-Key; RoHS: Yes; Category: Chip SMD Resistors; Stock 1: 5974; Pricing 1: 1=0,60000, 10=0,43200, 25=0,33680, 50=0,28520, 100=0,22470, 250=0,19008, 500=0,15552, 1000=0,12097 (USD); Case/Package: 2512; Min Operating Temperature: -55°C; Max Operating Temperature: 170°C; Packaging: Tape and Reel; Resistor Type: Metal Film; Number of Terminations: 2; Tolerance: 1%; Max Power Dissipation: 2W; Features: Moisture Resistant,Automotive AEC-Q200; Length: 0.25inch; Width: 0.125inch; Height: 0.035inch; RoHS Compliant: Yes; ComponentLink1URL: http://www.mouser.com/ds/2/447/PYu-PT-Group_521_RoHS_L_1-775188.pdf?src-supplier=Mouser; ComponentLink1Description: http://www.mouser.com/ds/2/447/PYu-PT-Group_521_RoHS_L_1-775188.pdf?src-supplier=Mouser; ComponentLink2URL: http://www.yageo.com/documents/recent/PYu-PE_521_RoHS_L_5.pdf?src-supplier=Digi-Key; ComponentLink2Description: http://www.yageo.com/documents/recent/PYu-PE_521_RoHS_L_5.pdf?src-supplier=Digi-Key; Supplier Part Number 1: YAG6030CT-ND
footprint PE2512
pins: 1, 2

## RC0603FR-070RL
designator R?, comment 0R
RES SMD 0 OHM JUMPER 1/10W 0603; Manufacturer: Yageo; Manufacturer Part Number: RC0603FR-070RL; Resistance: 0mR; Power Rating: 100mW; Tolerance: 1%; Voltage Rating (DC): 50V; Temperature Coefficient: 200ppm/°C; Current Rating: 1A; Working Voltage: 75V; Supplier 1: Digi-Key; RoHS: Yes; Category: Chip SMD Resistors; Stock 1: 4106042; Pricing 1: 1=0,10000, 10=0,01800, 25=0,01320, 50=0,01000, 100=0,00730, 250=0,00560, 500=0,00448, 1000=0,00329 (USD); Case/Package: 0603; Number of Pins: 2; Contact Plating: Tin,Matte; Case Code (Metric): 1608; Case Code (Imperial): 0603; Min Operating Temperature: -55°C; Max Operating Temperature: 155°C; Packaging: Tape and Reel; Resistor Type: Thick Film; Package Quantity: 5000; Voltage Rating: 50V; Number of Terminations: 2; Termination: SMD/SMT; Max Power Dissipation: 100mW; Features: Moisture Resistant; Series: RC; Construction: Rectangular; Resistance Tolerance: 1%; Technology: THICK FILM; Length: 1.6mm; Width: 0.8mm; Height: 0.45mm; Depth: 0.8mm; Radiation Hardening: No; Reach SVHC Compliant: Yes; Lead Free: Lead Free; RoHS Compliant: Yes; Military Standard: Not; ComponentLink1URL: https://datasheet.ciiva.com/11808/0900766b80f96399-11808172.pdf?src-supplier=RSComponents; ComponentLink1Description: https://datasheet.ciiva.com/11808/0900766b80f96399-11808172.pdf?src-supplier=RSComponents; ComponentLink2URL: https://datasheet.ciiva.com/5684/443971-5684699.pdf?src-supplier=Farnell; ComponentLink2Description: https://datasheet.ciiva.com/5684/443971-5684699.pdf?src-supplier=Farnell; ComponentLink3URL: https://datasheet.ciiva.com/7983/443971-7983627.pdf?src-supplier=Element14; ComponentLink3Description: https://datasheet.ciiva.com/7983/443971-7983627.pdf?src-supplier=Element14; ComponentLink4URL: https://datasheet.ciiva.com/22643/1868787-22643388.pdf?src-supplier=Element14; ComponentLink4Description: https://datasheet.ciiva.com/22643/1868787-22643388.pdf?src-supplier=Element14; ComponentLink5URL: https://datasheet.ciiva.com/46382/443971-46382072.pdf?src-supplier=Element14; ComponentLink5Description: https://datasheet.ciiva.com/46382/443971-46382072.pdf?src-supplier=Element14; ComponentLink6URL: https://datasheet.ciiva.com/29721/pyu-r-int-thick-7-29721178.pdf?src-supplier=Digi-Key; ComponentLink6Description: https://datasheet.ciiva.com/29721/pyu-r-int-thick-7-29721178.pdf?src-supplier=Digi-Key; ComponentLink7URL: https://datasheet.ciiva.com/29721/pyu-rc0603-51-rohs-l-4-29721179.pdf?src-supplier=Digi-Key; ComponentLink7Description: https://datasheet.ciiva.com/29721/pyu-rc0603-51-rohs-l-4-29721179.pdf?src-supplier=Digi-Key; ComponentLink8URL: https://datasheet.ciiva.com/5558/rc0603-272842-5558341.pdf?src-supplier=Mouser; ComponentLink8Description: https://datasheet.ciiva.com/5558/rc0603-272842-5558341.pdf?src-supplier=Mouser; Supplier Part Number 1: 311-0.0HRCT-ND
footprint R0603
pins: 1, 2

## RC0603FR-071KL
designator R?, comment 1k
RES SMD 1K OHM 1% 1/10W 0603; Manufacturer: Yageo; Manufacturer Part Number: RC0603FR-071KL; Resistance: 1kR; Temperature Coefficient: 100ppm/°C; Power Rating: 100mW; Voltage Rating: 50V; Supplier 1: Digi-Key; RoHS: Yes; Category: Chip SMD Resistors; Stock 1: 31496496; Pricing 1: 1=0,10000, 10=0,02100, 100=0,00850, 1000=0,00383, 2500=0,00332 (USD); Case/Package: 0603; Contact Plating: Tin,Matte; Case Code (Imperial): 0603; Case Code (Metric): 1608; Size Code: 0603; Min Operating Temperature: -55°C; Max Operating Temperature: 155°C; Tolerance: 1%; Resistor Type: Thick Film; Packaging: Tape and Reel; Termination: SMD/SMT; Features: Moisture Resistant; Series: RC; Max Power Dissipation: 100mW; Number of Terminations: 2; Technology: THICK FILM; Resistance Tolerance: 1%; Construction: Rectangular; Length: 1.6mm; Height: 0.45mm; Depth: 0.8mm; Radiation Hardening: No; Reach SVHC Compliant: Yes; Military Standard: Not; Lead Free: Lead Free; RoHS Compliant: Yes; ComponentLink1URL: https://datasheet.ciiva.com/11808/0900766b80f96399-11808081.pdf?src-supplier=RSComponents; ComponentLink1Description: https://datasheet.ciiva.com/11808/0900766b80f96399-11808081.pdf?src-supplier=RSComponents; ComponentLink2URL: https://datasheet.ciiva.com/7746/1686128-7746280.pdf?src-supplier=Element14; ComponentLink2Description: https://datasheet.ciiva.com/7746/1686128-7746280.pdf?src-supplier=Element14; ComponentLink3URL: https://datasheet.ciiva.com/7660/1868787-7660790.pdf?src-supplier=Element14; ComponentLink3Description: https://datasheet.ciiva.com/7660/1868787-7660790.pdf?src-supplier=Element14; ComponentLink4URL: https://datasheet.ciiva.com/7983/443971-7983613.pdf?src-supplier=Element14; ComponentLink4Description: https://datasheet.ciiva.com/7983/443971-7983613.pdf?src-supplier=Element14; ComponentLink5URL: https://datasheet.ciiva.com/7746/1738695-7746281.pdf?src-supplier=Element14; ComponentLink5Description: https://datasheet.ciiva.com/7746/1738695-7746281.pdf?src-supplier=Element14; ComponentLink6URL: https://datasheet.ciiva.com/7746/1738695-7746279.pdf?src-supplier=Element14; ComponentLink6Description: https://datasheet.ciiva.com/7746/1738695-7746279.pdf?src-supplier=Element14; ComponentLink7URL: https://datasheet.ciiva.com/8896/pyu-rc0603-51-rohs-l-4-8896106.pdf?src-supplier=Avnet; ComponentLink7Description: https://datasheet.ciiva.com/8896/pyu-rc0603-51-rohs-l-4-8896106.pdf?src-supplier=Avnet; ComponentLink8URL: https://datasheet.ciiva.com/15189/getdatasheetpartid-404327-15189644.pdf?src-supplier=Verical; ComponentLink8Description: https://datasheet.ciiva.com/15189/getdatasheetpartid-404327-15189644.pdf?src-supplier=Verical; Supplier Part Number 1: 311-1.00KHRCT-ND
footprint R0603
pins: 1, 2

## RC0603FR-071ML
designator R?, comment 1M
RES SMD 1M OHM 1% 1/10W 0603; Manufacturer: Yageo; Manufacturer Part Number: RC0603FR-071ML; Voltage Rating: 75V; Voltage Rating (DC): 50V; Resistance: 1MR; Power Rating: 100mW; Temperature Coefficient: 100ppm/°C; Application(s): HIGH RELIABILITY; Supplier 1: Digi-Key; RoHS: Yes; Category: Chip SMD Resistors; Stock 1: 1731249; Pricing 1: 1=0,10000, 10=0,02100, 100=0,00850, 1000=0,00383, 2500=0,00332 (USD); Case/Package: 0603; Number of Pins: 2; Case Code (Imperial): 0603; Case Code (Metric): 1608; Weight: 0.000847oz; Min Operating Temperature: -55°C; Max Operating Temperature: 155°C; Tolerance: 1%; Packaging: Cut Tape; Package Quantity: 5000; Termination: SMD/SMT; Resistor Type: Thick Film; Type: General Purpose; Series: RC; Technology: THICK FILM; Length: 1.6mm; Width: 0.8mm; Height: 0.45mm; Depth: 0.8mm; RoHS Compliant: Yes; Reach SVHC Compliant: Yes; Military Standard: Not; Lead Free: Lead Free; ComponentLink1URL: https://datasheet.ciiva.com/11819/0900766b80f96399-11819295.pdf?src-supplier=RSComponents; ComponentLink1Description: https://datasheet.ciiva.com/11819/0900766b80f96399-11819295.pdf?src-supplier=RSComponents; ComponentLink2URL: https://datasheet.ciiva.com/7983/443971-7983614.pdf?src-supplier=Element14; ComponentLink2Description: https://datasheet.ciiva.com/7983/443971-7983614.pdf?src-supplier=Element14; ComponentLink3URL: https://datasheet.ciiva.com/12555/rc0603-272842-12555388.pdf?src-supplier=Mouser; ComponentLink3Description: https://datasheet.ciiva.com/12555/rc0603-272842-12555388.pdf?src-supplier=Mouser; Supplier Part Number 1: 311-1.00MHRCT-ND
footprint R0603
pins: 1, 2

## RC0603FR-073K3L
designator R?, comment 3k3
RES SMD 3K3 OHM 1% 1/10W 0603; Manufacturer: Yageo; Manufacturer Part Number: RC0603FR-073K3L; Resistance: 3.3kR; Temperature Coefficient: 100ppm/°C; Voltage Rating (DC): 50V; Power Rating: 100mW; Supplier 1: Digi-Key; RoHS: Yes; Category: Chip SMD Resistors; Stock 1: 3052323; Pricing 1: 1=0,10000, 10=0,02100, 100=0,00850, 1000=0,00383, 2500=0,00332 (USD); Case/Package: 0603; Number of Pins: 2; Case Code (Imperial): 0603; Case Code (Metric): 1608; Size Code: 0603; Min Operating Temperature: -55°C; Max Operating Temperature: 155°C; Tolerance: 1%; Resistor Type: Thick Film; Packaging: Tape and Reel; Voltage Rating: 50V; Package Quantity: 1; Termination: SMD/SMT; Number of Terminations: 2; Max Power Dissipation: 100mW; Features: Moisture Resistant; Series: RC; Resistance Tolerance: 1%; Construction: Rectangular; Length: 1.6mm; Width: 0.8mm; Height: 0.022inch; Depth: 0.8mm; Reach SVHC Compliant: Yes; Lead Free: Lead Free; Military Standard: Not; RoHS Compliant: Yes; ComponentLink1URL: https://datasheet.ciiva.com/7746/1686128-7746345.pdf?src-supplier=Element14; ComponentLink1Description: https://datasheet.ciiva.com/7746/1686128-7746345.pdf?src-supplier=Element14; ComponentLink2URL: https://datasheet.ciiva.com/46440/1868787-46440905.pdf?src-supplier=Element14; ComponentLink2Description: https://datasheet.ciiva.com/46440/1868787-46440905.pdf?src-supplier=Element14; ComponentLink3URL: https://datasheet.ciiva.com/2453/pyu-r-int-thick-7-2453926.pdf?src-supplier=Digi-Key; ComponentLink3Description: https://datasheet.ciiva.com/2453/pyu-r-int-thick-7-2453926.pdf?src-supplier=Digi-Key; ComponentLink4URL: https://datasheet.ciiva.com/2453/pyu-r-int-thick-7-2453927.pdf?src-supplier=Digi-Key; ComponentLink4Description: https://datasheet.ciiva.com/2453/pyu-r-int-thick-7-2453927.pdf?src-supplier=Digi-Key; ComponentLink5URL: https://datasheet.ciiva.com/7746/443971-7746344.pdf?src-supplier=Element14; ComponentLink5Description: https://datasheet.ciiva.com/7746/443971-7746344.pdf?src-supplier=Element14; ComponentLink6URL: https://datasheet.ciiva.com/7746/443971-7746346.pdf?src-supplier=Element14; ComponentLink6Description: https://datasheet.ciiva.com/7746/443971-7746346.pdf?src-supplier=Element14; Supplier Part Number 1: 311-3.30KHRCT-ND
footprint R0603
pins: 1, 2

## RC0603FR-0710KL
designator R?, comment 10k
RES SMD 10K OHM 1% 1/10W 0603; Manufacturer: Yageo; Manufacturer Part Number: RC0603FR-0710KL; Resistance: 10kR; Temperature Coefficient: 100ppm/°C; Voltage Rating: 75V; Voltage Rating (DC): 50V; Power Rating: 100mW; Supplier 1: Digi-Key; RoHS: Yes; Category: Chip SMD Resistors; Stock 1: 43023558; Pricing 1: 1=0,10000, 10=0,02100, 100=0,00850, 1000=0,00383, 2500=0,00332 (USD); Case/Package: 0603; Number of Pins: 2; Case Code (Imperial): 0603; Case Code (Metric): 1608; Weight: 7.1E-05oz; Size Code: 0603; Min Operating Temperature: -55°C; Max Operating Temperature: 155°C; Tolerance: 1%; Resistor Type: Thick Film; Packaging: Tape and Reel; Termination: SMD/SMT; Features: Moisture Resistant; Series: RC; Max Power Dissipation: 100mW; Number of Terminations: 2; Resistance Tolerance: 1%; Construction: Rectangular; Length: 1.6mm; Width: 0.8mm; Height: 0.45mm; Depth: 0.8mm; Lead Pitch: 0.3mm; RoHS Compliant: Yes; Reach SVHC Compliant: Yes; Military Standard: Not; Lead Free: Lead Free; ComponentLink1URL: https://datasheet.ciiva.com/7660/38590-7660789.pdf?src-supplier=Element14; ComponentLink1Description: https://datasheet.ciiva.com/7660/38590-7660789.pdf?src-supplier=Element14; ComponentLink2URL: https://datasheet.ciiva.com/7983/443971-7983596.pdf?src-supplier=Element14; ComponentLink2Description: https://datasheet.ciiva.com/7983/443971-7983596.pdf?src-supplier=Element14; ComponentLink3URL: https://datasheet.ciiva.com/22747/443971-22747519.pdf?src-supplier=Element14; ComponentLink3Description: https://datasheet.ciiva.com/22747/443971-22747519.pdf?src-supplier=Element14; ComponentLink4URL: https://datasheet.ciiva.com/46440/1868787-46440891.pdf?src-supplier=Element14; ComponentLink4Description: https://datasheet.ciiva.com/46440/1868787-46440891.pdf?src-supplier=Element14; ComponentLink5URL: https://datasheet.ciiva.com/7746/1738695-7746239.pdf?src-supplier=Element14; ComponentLink5Description: https://datasheet.ciiva.com/7746/1738695-7746239.pdf?src-supplier=Element14; ComponentLink6URL: https://datasheet.ciiva.com/15189/getdatasheetpartid-409289-15189591.pdf?src-supplier=Verical; ComponentLink6Description: https://datasheet.ciiva.com/15189/getdatasheetpartid-409289-15189591.pdf?src-supplier=Verical; Supplier Part Number 1: 311-10.0KHRCT-ND
footprint R0603
pins: 1, 2

## RC0603FR-0722RL
designator R?, comment 22R
RES SMD 22 OHM 1% 1/10W 0603; Manufacturer: Yageo; Manufacturer Part Number: RC0603FR-0722RL; Temperature Coefficient: 100ppm/°C; Voltage Rating (DC): 50V; Power Rating: 100mW; Supplier 1: Digi-Key; RoHS: Yes; Category: Chip SMD Resistors; Stock 1: 4763382; Pricing 1: 1=0,10000, 10=0,02100, 100=0,00850, 1000=0,00383, 2500=0,00332 (USD); Case/Package: 0603; Number of Pins: 2; Case Code (Metric): 1608; Case Code (Imperial): 0603; Size Code: 0603; Min Operating Temperature: -55°C; Max Operating Temperature: 155°C; Tolerance: 1%; Resistance: 22R; Resistor Type: Thick Film; Packaging: Tape and Reel; Voltage Rating: 50V; Package Quantity: 1; Number of Terminations: 2; Termination: SMD/SMT; Max Power Dissipation: 100mW; Features: Moisture Resistant; Series: RC; Resistance Tolerance: 1%; Technology: THICK FILM; Construction: Rectangular; Length: 0.063inch; Width: 0.031inch; Height: 0.022inch; Depth: 0.8mm; Reach SVHC Compliant: Yes; Lead Free: Lead Free; Military Standard: Not; RoHS Compliant: Yes; ComponentLink1URL: https://datasheet.ciiva.com/11819/0900766b80f96399-11819285.pdf?src-supplier=RSComponents; ComponentLink1Description: https://datasheet.ciiva.com/11819/0900766b80f96399-11819285.pdf?src-supplier=RSComponents; ComponentLink2URL: https://datasheet.ciiva.com/46395/443971-46395032.pdf?src-supplier=Element14; ComponentLink2Description: https://datasheet.ciiva.com/46395/443971-46395032.pdf?src-supplier=Element14; ComponentLink3URL: https://datasheet.ciiva.com/46440/1868787-46440901.pdf?src-supplier=Element14; ComponentLink3Description: https://datasheet.ciiva.com/46440/1868787-46440901.pdf?src-supplier=Element14; ComponentLink4URL: https://datasheet.ciiva.com/2454/pyu-r-int-thick-7-2454355.pdf?src-supplier=Digi-Key; ComponentLink4Description: https://datasheet.ciiva.com/2454/pyu-r-int-thick-7-2454355.pdf?src-supplier=Digi-Key; ComponentLink5URL: https://datasheet.ciiva.com/2454/pyu-r-int-thick-7-2454356.pdf?src-supplier=Digi-Key; ComponentLink5Description: https://datasheet.ciiva.com/2454/pyu-r-int-thick-7-2454356.pdf?src-supplier=Digi-Key; ComponentLink6URL: https://datasheet.ciiva.com/2454/pyu-r-int-thick-7-2454354.pdf?src-supplier=Digi-Key; ComponentLink6Description: https://datasheet.ciiva.com/2454/pyu-r-int-thick-7-2454354.pdf?src-supplier=Digi-Key; Supplier Part Number 1: 311-22.0HRCT-ND
footprint R0603
pins: 1, 2